# EAGLE library part 87759-32_S (library con-molex-milli-grid)
HEADER
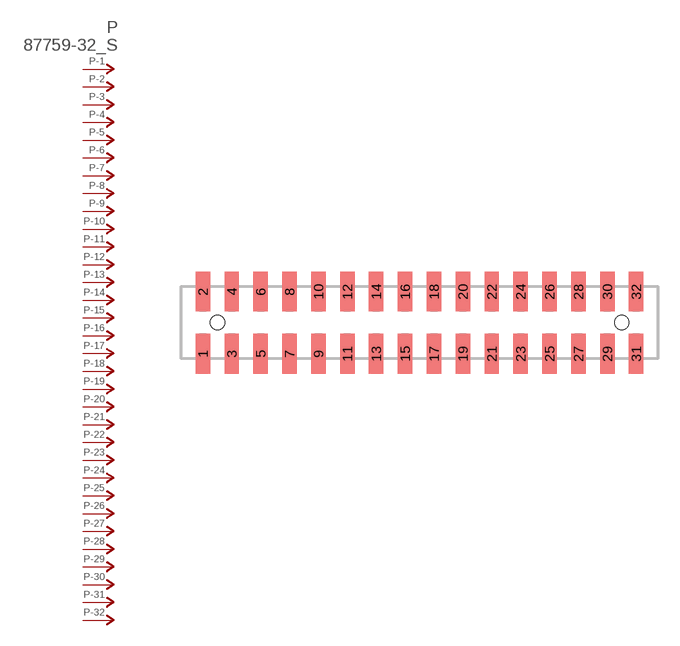
[diagram p371: symbol with the pads of 87759-32; footprint 87759-32]

Designator prefix P; gates -1=P-NV -2=P-N -3=P-N -4=P-N -5=P-N -6=P-N -7=P-N -8=P-N -9=P-N -10=P-N -11=P-N -12=P-N -13=P-N -14=P-N -15=P-N -16=P-N -17=P-N -18=P-N -19=P-N -20=P-N -21=P-N -22=P-N -23=P-N -24=P-N -25=P-N -26=P-N -27=P-N -28=P-N -29=P-N -30=P-N -31=P-N -32=P-N

## 87759-32_S  [87759-32]
1  -1:P  pas
2  -2:P  pas
3  -3:P  pas
4  -4:P  pas
5  -5:P  pas
6  -6:P  pas
7  -7:P  pas
8  -8:P  pas
9  -9:P  pas
10  -10:P  pas
11  -11:P  pas
12  -12:P  pas
13  -13:P  pas
14  -14:P  pas
15  -15:P  pas
16  -16:P  pas
17  -17:P  pas
18  -18:P  pas
19  -19:P  pas
20  -20:P  pas
21  -21:P  pas
22  -22:P  pas
23  -23:P  pas
24  -24:P  pas
25  -25:P  pas
26  -26:P  pas
27  -27:P  pas
28  -28:P  pas
29  -29:P  pas
30  -30:P  pas
31  -31:P  pas
32  -32:P  pas

## Footprint 87759-32 (pad centres in mm)
HEADER SMD Dual Row, Vertical
smd 1 x 2.75: 1 -15,-2.15; 2 -15,2.15; 3 -13,-2.15; 4 -13,2.15; 5 -11,-2.15; 6 -11,2.15; 7 -9,-2.15; 8 -9,2.15; 9 -7,-2.15; 10 -7,2.15; 11 -5,-2.15; 12 -5,2.15; 13 -3,-2.15; 14 -3,2.15; 15 -1,-2.15; 16 -1,2.15; 17 1,-2.15; 18 1,2.15; 19 3,-2.15; 20 3,2.15; 21 5,-2.15; 22 5,2.15; 23 7,-2.15; 24 7,2.15; 25 9,-2.15; 26 9,2.15; 27 11,-2.15; 28 11,2.15; 29 13,-2.15; 30 13,2.15; 31 15,-2.15; 32 15,2.15
hole 1 at -14,0
hole 1 at 14,0